# EAGLE library part PIC18F1320-18 (library WallerLabLib)
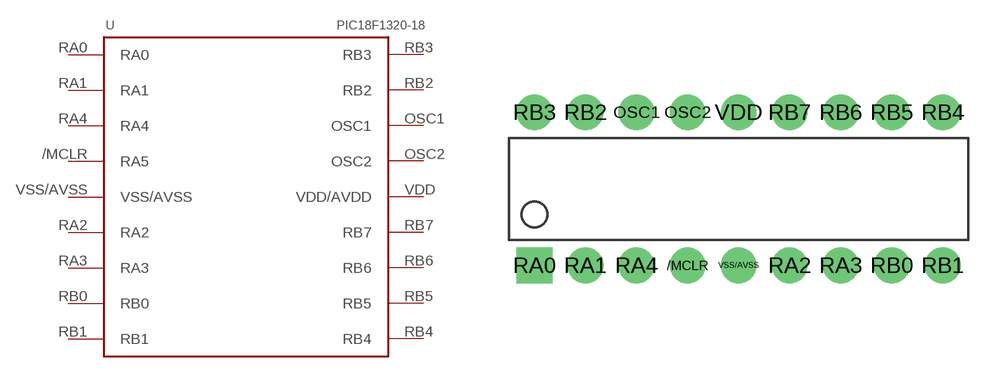
[diagram p1: symbol with the pads of 18-PDIP; footprint 18-PDIP]

Designator prefix -

## PIC18F1320-18V1  [18-PDIP]
/MCLR  RA5
OSC1  OSC1
OSC2  OSC2
RA0  RA0
RA1  RA1
RA2  RA2
RA3  RA3
RA4  RA4
RB0  RB0
RB1  RB1
RB2  RB2
RB3  RB3
RB4  RB4
RB5  RB5
RB6  RB6
RB7  RB7
VDD  VDD/AVDD
VSS/AVSS  VSS/AVSS

## Footprint 18-PDIP (pad centres in mm)
drill 0.8 pad 1.778: /MCLR -2.54,-3.81; OSC1 -5.08,3.81; OSC2 -2.54,3.81; RA1 -7.62,-3.81; RA2 2.54,-3.81; RA3 5.08,-3.81; RA4 -5.08,-3.81; RB0 7.62,-3.81; RB1 10.16,-3.81; RB2 -7.62,3.81; RB3 -10.16,3.81; RB4 10.16,3.81; RB5 7.62,3.81; RB6 5.08,3.81; RB7 2.54,3.81; VDD 0,3.81; VSS/AVSS 0,-3.81
drill 0.8 pad 1.778 square: RA0 -10.16,-3.81